# Altium schematic symbol library NCV272DR2G.SchLib: 1 symbol
Pins are listed as number, name and electrical type; pins without a type are passive.

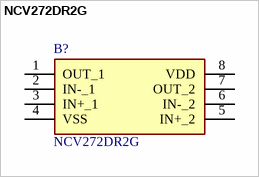
[diagram p0: symbol NCV272DR2G]

## NCV272DR2G
designator B?
Wide Bandwidth: 3 MHz; Wide Power Supply Range: 2.7 to 36V; Low Supply Current: 416 A; Rail to Rail Output; Manufacturer_Name: onsemi; Geometry.Height: 1.75mm; Farnell Part Number: *; Farnell Price/Stock: *; Manufacturer_Part_Number: NCV272DR2G; Datasheet Link: https://www.onsemi.com/pub/Collateral/TLV271-D.PDF
footprint SOIC127P600X175-8N
pins: 1 OUT_1, 2 IN-_1, 3 IN+_1, 4 VSS, 5 IN+_2, 6 IN-_2, 7 OUT_2, 8 VDD